# Altium footprint library SM07B-GHS-TB(LF)(SN).PcbLib: 1 footprints
Each footprint in its own frame and in the unit in brackets; x right, y up, seen from the top. Pads: shape width x height; smd on the part's side, far side on the other; paste and mask are expansions set on the pad; w line width, h text height; cw(c..) or ccw(c..) is an arc to the next point about the centre after c.
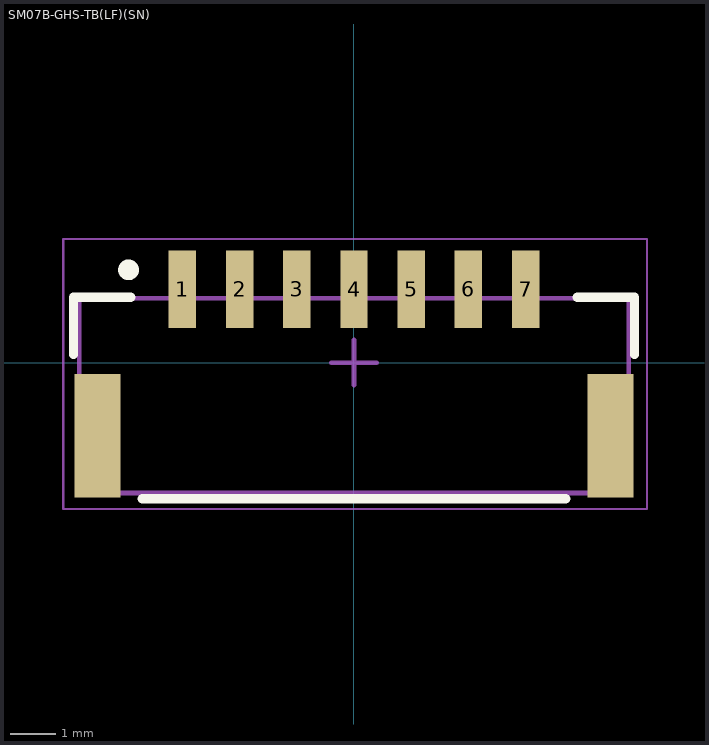
[diagram p0: the footprint, top view; thin cyan lines are the x and y axes]

## SM07B-GHS-TB(LF)(SN) [mm]
pads (9):
  rect 0.6x1.7 smd: 1(-3.75,1.6) 2(-2.5,1.6) 3(-1.25,1.6) 4(0,1.6) 5(1.25,1.6) 6(2.5,1.6) 7(3.75,1.6)
  rect 1x2.7 smd: ""(-5.6,-1.6) ""(5.6,-1.6)
Top Overlay:
  circle w0.254: c-4.925,2.025 r0.1
  lines w0.2: -6.125,0.175 -6.125,1.425 -4.875,1.425 ; -4.625,-2.975 4.625,-2.975 ; 4.875,1.425 6.125,1.425 6.125,0.175
Mechanical 1:
  lines w0.1: -6,-2.85 -6,1.4 6,1.4 6,-2.85 -6,-2.85
  text ".Designator" at -3.374,-1.458 h0.65
Mechanical 2:
  lines w0.05: -6.35,-3.2 6.4,-3.2 6.4,2.7 -6.35,2.7 -6.35,-3.2
  lines w0.1: -0.5,0 0.5,0 ; 0,-0.5 0,0.5
3D body "SM07B-GHS-TB.STEP": height 4.35, standoff 0, extent -6,-2.85 6,2